# EAGLE library part LT1371 (library Hardware)
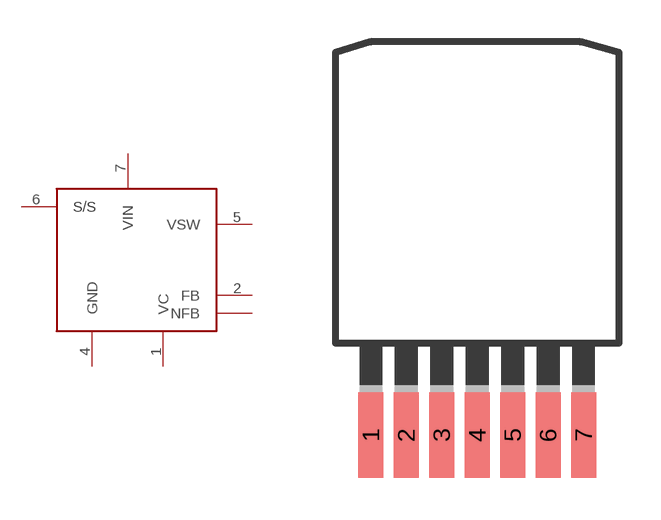
[diagram p6: symbol with the pads of DDPACK-7; footprint DDPACK-7]

Designator prefix -

## LT1371DDPAK7  [DDPACK-7]
1  VC
2  FB
4  GND
5  VSW
6  S/S
7  VIN

## Footprint DDPACK-7 (pad centres in mm)
PLASTIC FLANGE-MOUNT
smd 0.889 x 3.048: 1 -3.81,-8.255; 2 -2.54,-8.255; 3 -1.27,-8.255; 4 0,-8.255; 5 1.27,-8.255; 6 2.54,-8.255; 7 3.81,-8.255